# Altium schematic symbol library NLV32T-181J-EF.SchLib: 1 symbol
Pins are listed as number, name and electrical type; pins without a type are passive.

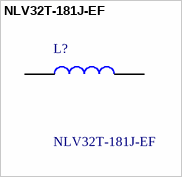
[diagram p0: symbol NLV32T-181J-EF]

## NLV32T-181J-EF
designator L?
TDK - NLV32T-181J-EF - High Frequency Inductor, 180 ?H, NLV32-EF Series, 60 mA, 1210 [3225 Metric], Wirewound, 17 ohm; Geometry.Height: 2.4mm; Mouser Part Number: 810-NLV32T-181J-EF; Mouser Price/Stock: https://www.mouser.co.uk/ProductDetail/TDK/NLV32T-181J-EF?qs=u4%252BEJ9urDARpHz3fJZRHLg%3D%3D; Manufacturer_Name: TDK; Manufacturer_Part_Number: NLV32T-181J-EF; Datasheet Link: https://product.tdk.com/system/files/dam/doc/product/inductor/inductor/smd/catalog/inductor_commercial_standard_nlv32-ef_en.pdf
footprint INDM3225X240N
pins: 1, 2